# Altium footprint library LED_0805_OSRAM_R97x.PcbLib: 1 footprints
Each footprint in its own frame and in the unit in brackets; x right, y up, seen from the top. Pads: shape width x height; smd on the part's side, far side on the other; paste and mask are expansions set on the pad; w line width, h text height; cw(c..) or ccw(c..) is an arc to the next point about the centre after c.
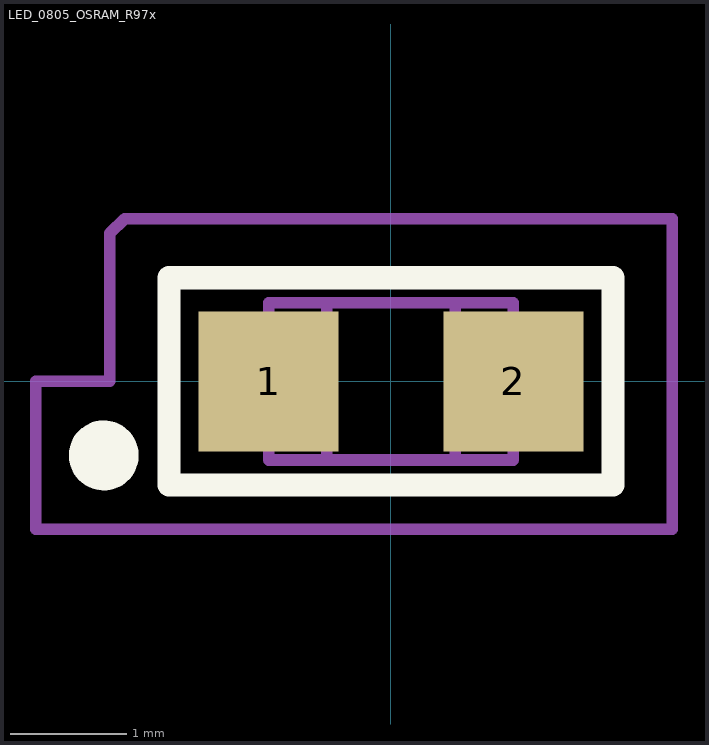
[diagram p0: the footprint, top view; thin cyan lines are the x and y axes]

## LED_0805_OSRAM_R97x [mm]
pads (2):
  rect 1.2x1.2 smd: 1(-1.05,0) 2(1.05,0)
Top Overlay:
  circle w0.3: c-2.466,-0.635 r0.15
  lines w0.2: -1.905,-0.889 1.905,-0.889 1.905,0.889 -1.905,0.889 -1.905,-0.645 -1.905,-0.889
Mechanical 13:
  lines w0.1: -0.55,-0.675 -0.55,0.675 ; 0.55,-0.675 0.55,0.675 ; -1.05,-0.675 1.05,-0.675 1.05,0.675 -1.05,0.675 -1.05,-0.675
Mechanical 15:
  lines w0.1: -3.048,-1.27 2.413,-1.27 2.413,1.397 -2.286,1.397 -2.413,1.27 -2.413,0 -3.048,0 -3.048,-1.27
3D body: height 0.8, standoff 0, extent -1,-0.6 1,0.6